# Altium integrated library Microcontroller.IntLib: 5 symbols
Pins are listed as number, name and electrical type; pins without a type are passive.

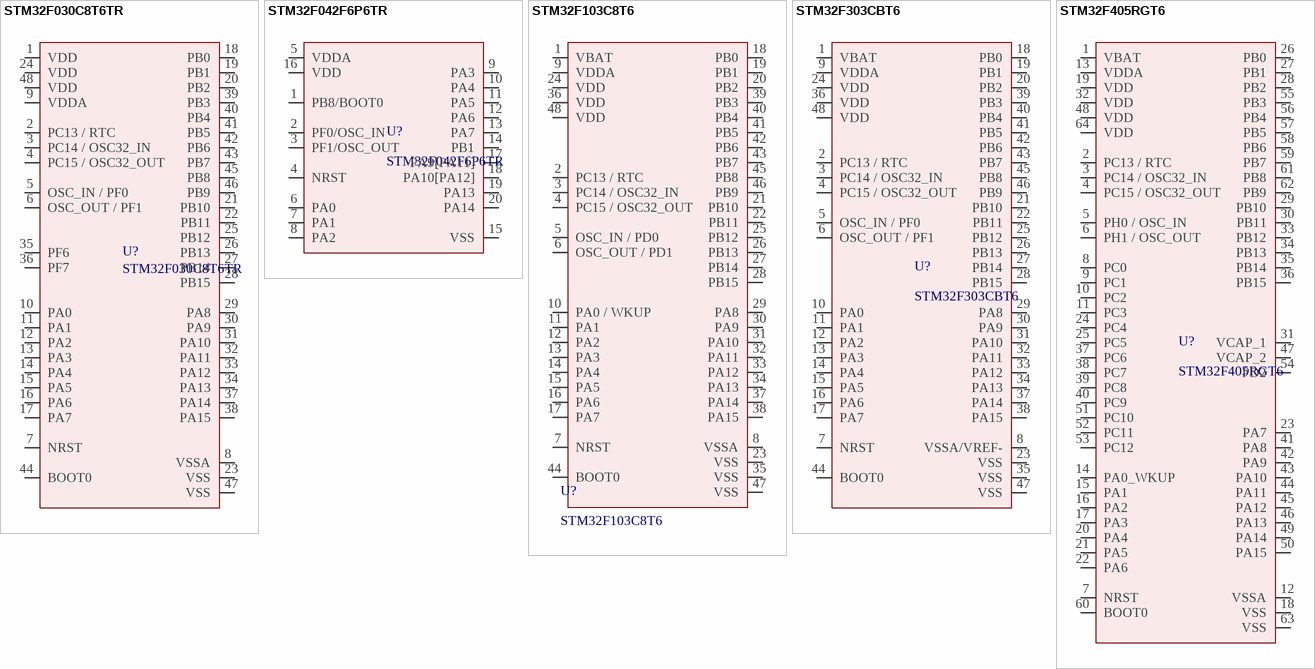
[diagram p0: symbols STM32F030C8T6TR to STM32F405RGT6]

## STM32F030C8T6TR
designator U?
IC MCU 32BIT 64KB FLASH 48LQFP; Manufacturer: STMicroelectronics; RAM Size: 8KB; Max Power Dissipation: 364mW; Interface: I2C,SPI,UART,USART; Number of I/Os: 39; Number of Timers/Counters: 7; Min Supply Voltage: 2.4V; Max Supply Voltage: 3.6V; Frequency: 48MHz; Oscillator Type: Internal; Data Bus Width: 32b; Number of ADC Channels: 12; Number of SPI Channels: 2; Number of PWM Channels: 6; Watchdog Timer: Yes; Peripherals: POR,PWM,WDT,DMA; Core Architecture: ARM; Designed: Ferdi; Supplier 1: Digi-Key; Manufacturer Part Number: STM32F030C8T6TR; RoHS: Yes; Category: Microcontrollers; Stock 1: 31508; Pricing 1: 1=2,74, 10=2,46, 25=2,3208, 100=1,9773, 250=1,8566, 500=1,6245, 1000=1,34602 (USD); Mount: Surface Mount; Case/Package: LQFP; Number of Pins: 48; Weight: 0.006409oz; Min Operating Temperature: -40°C; Max Operating Temperature: 85°C; Packaging: Tape and Reel; Number of Programmable I/O: 39; Max Frequency: 48MHz; Number of I2C Channels: 2; Memory Type: FLASH; Memory Size: 64KB; Package Quantity: 2400; Series: STM32F0; Length: 7.2mm; Width: 7.2mm; Height: 1.45mm; Radiation Hardening: No; Reach SVHC Compliant: No; Lead Free: Lead Free; RoHS Compliant: Yes; ComponentLink1URL: http://www.farnell.com/datasheets/2554494.pdf?src-supplier=Farnell; ComponentLink1Description: http://www.farnell.com/datasheets/2554494.pdf?src-supplier=Farnell; ComponentLink2URL: http://www.farnell.com/datasheets/1792126.pdf?src-supplier=Element14; ComponentLink2Description: http://www.farnell.com/datasheets/1792126.pdf?src-supplier=Element14; Supplier Part Number 1: 497-17331-1-ND
footprint LQFP 48
pins: 1 VDD, 2 PC13 / RTC, 3 PC14 / OSC32_IN, 4 PC15 / OSC32_OUT, 5 OSC_IN / PF0, 6 OSC_OUT / PF1, 7 NRST, 8 VSSA, 9 VDDA, 10 PA0, 11 PA1, 12 PA2, 13 PA3, 14 PA4, 15 PA5, 16 PA6, 17 PA7, 18 PB0, 19 PB1, 20 PB2, 21 PB10, 22 PB11, 23 VSS, 24 VDD, 25 PB12, 26 PB13, 27 PB14, 28 PB15, 29 PA8, 30 PA9, 31 PA10, 32 PA11, 33 PA12, 34 PA13, 35 PF6, 36 PF7, 37 PA14, 38 PA15, 39 PB3, 40 PB4, 41 PB5, 42 PB6, 43 PB7, 44 BOOT0, 45 PB8, 46 PB9, 47 VSS, 48 VDD

## STM32F042F6P6TR
designator U?
MCU 32-Bit STM32F ARM Cortex M0 RISC 32KB Flash 2.5V/3.3V 20-Pin TSSOP Tube; Manufacturer: STMicroelectronics; Nominal Supply Current: 1.7uA; Number of A/D Converters: 1NUMBER; Designed: Ferdi; Number of Channels: 9NUMBER; Supplier 1: Digikey; Manufacturer Part Number: STM32F042F6P6; RoHS: Yes; Category: Microcontrollers; Stock 1: 1060; Pricing 1: 1=3,08, 10=2,769, 74=2,61797, 148=2,26885, 296=2,1525, 518=1,93145, 1036=1,62893, 2516=1,54748, 5032=1,48931 (USD); ComponentLink1URL: https://datasheet.ciiva.com/48494/dm00105814-48494123.pdf?src-supplier=Avnet; ComponentLink1Description: https://datasheet.ciiva.com/48494/dm00105814-48494123.pdf?src-supplier=Avnet; Supplier Part Number 1: 497-17344-ND
footprint TSSOP20
pins: 1 PB8/BOOT0, 2 PF0/OSC_IN, 3 PF1/OSC_OUT, 4 NRST, 5 VDDA, 6 PA0, 7 PA1, 8 PA2, 9 PA3, 10 PA4, 11 PA5, 12 PA6, 13 PA7, 14 PB1, 15 VSS, 16 VDD, 17 PA9[PA11], 18 PA10[PA12], 19 PA13, 20 PA14

## STM32F103C8T6
designator U?
ARM Cortex-M3 STM32 F1 Microcontroller 32-Bit 72MHz 64kB FLASH LQFP48 STM32F103C8T6; Manufacturer: STMicroelectronics; RAM Size: 20KB; Interface: I2C,SPI,USB,CAN,USART; Number of I/Os: 37; Number of Timers/Counters: 3; Max Supply Voltage: 3.6V; Number of ADC Channels: 10; Min Supply Voltage: 2V; Data Bus Width: 32b; Nominal Supply Current: 1.7uA; Number of A/D Converters: 2; Designed: Ferdi; Supplier 1: Digikey; Manufacturer Part Number: STM32F103C8T6; RoHS: Yes; Category: Microcontrollers; Stock 1: 6300; Pricing 1: 1=6,11, 10=5,522, 25=5,2652, 80=4,57163, 250=4,36616, 500=3,9809, 1000=3,46724, 2500=3,33883 (USD); Case/Package: LQFP; Number of Pins: 48; Weight: 0.006349oz; Min Operating Temperature: -40°C; Max Operating Temperature: 85°C; Packaging: Tray; Package Quantity: 1500; Memory Type: FLASH; Max Frequency: 72MHz; Memory Size: 64KB; Core Architecture: ARM; Series: STM32F103C8; Number of Channels: 10; Length: 7mm; Width: 7mm; Height: 1.4mm; Lead Free: Lead Free; RoHS Compliant: Yes; ComponentLink1URL: https://datasheet.ciiva.com/48687/001075658-da-01-en-mcu-64kb-mem-stm32f103c8t6-lqfp-48-stm-48687589.pdf?src-supplier=Conrad; ComponentLink1Description: https://datasheet.ciiva.com/48687/001075658-da-01-en-mcu-64kb-mem-stm32f103c8t6-lqfp-48-stm-48687589.pdf?src-supplier=Conrad; Supplier Part Number 1: 497-6063-ND
footprint LQFP 48
pins: 1 VBAT, 2 PC13 / RTC, 3 PC14 / OSC32_IN, 4 PC15 / OSC32_OUT, 5 OSC_IN / PD0, 6 OSC_OUT / PD1, 7 NRST, 8 VSSA, 9 VDDA, 10 PA0 / WKUP, 11 PA1, 12 PA2, 13 PA3, 14 PA4, 15 PA5, 16 PA6, 17 PA7, 18 PB0, 19 PB1, 20 PB2, 21 PB10, 22 PB11, 23 VSS, 24 VDD, 25 PB12, 26 PB13, 27 PB14, 28 PB15, 29 PA8, 30 PA9, 31 PA10, 32 PA11, 33 PA12, 34 PA13, 35 VSS, 36 VDD, 37 PA14, 38 PA15, 39 PB3, 40 PB4, 41 PB5, 42 PB6, 43 PB7, 44 BOOT0, 45 PB8, 46 PB9, 47 VSS, 48 VDD

## STM32F303CBT6
designator U?
MCU 32-bit STM32F ARM Cortex M4 RISC 128KB Flash 2.5V/3.3V 48-Pin LQFP Tray; Manufacturer: STMicroelectronics; Number of Timers/Counters: 8; RAM Size: 32KB; Interface: I2C,SPI,USB,IrDA,UART,USART,CAN; Number of I/Os: 37; Min Supply Voltage: 2V; Data Bus Width: 32b; Oscillator Type: Internal; Max Frequency: 72MHz; Number of ADC Channels: 1; Peripherals: POR,PWM,WDT,DMA; Nominal Supply Current: 1.5uA; Number of A/D Converters: 4NUMBER; Number of Channels: 15NUMBER; Number of D/A Converters: 2NUMBER; Operating Supply Voltage: 3.6V; Supplier 1: Digi-Key; Manufacturer Part Number: STM32F303CBT6; RoHS: Yes; Category: Microcontrollers; Stock 1: 8261; Pricing 1: 1=6,62, 10=5,977, 25=5,6984, 80=4,948, 250=4,72564, 500=4,30866, 1000=3,75271, 2500=3,61372 (USD); Case/Package: LQFP; Number of Pins: 48; Weight: 0.006409oz; Min Operating Temperature: -40°C; Max Operating Temperature: 85°C; Package Quantity: 1500; Packaging: Tray; Memory Type: FLASH; Memory Size: 128KB; Core Architecture: ARM; Series: STM32F3; Length: 7mm; RoHS Compliant: Yes; Lead Free: Lead Free; ComponentLink1URL: https://datasheet.ciiva.com/22692/1831499-22692000.pdf?src-supplier=Element14; ComponentLink1Description: https://datasheet.ciiva.com/22692/1831499-22692000.pdf?src-supplier=Element14; ComponentLink2URL: https://datasheet.ciiva.com/24182/dm00058181-24182821.pdf?src-supplier=Future+Electronics; ComponentLink2Description: https://datasheet.ciiva.com/24182/dm00058181-24182821.pdf?src-supplier=Future+Electronics; Supplier Part Number 1: 497-17421-ND; Digikey: Ferdi
footprint LQFP 48
pins: 1 VBAT, 2 PC13 / RTC, 3 PC14 / OSC32_IN, 4 PC15 / OSC32_OUT, 5 OSC_IN / PF0, 6 OSC_OUT / PF1, 7 NRST, 8 VSSA/VREF-, 9 VDDA, 10 PA0, 11 PA1, 12 PA2, 13 PA3, 14 PA4, 15 PA5, 16 PA6, 17 PA7, 18 PB0, 19 PB1, 20 PB2, 21 PB10, 22 PB11, 23 VSS, 24 VDD, 25 PB12, 26 PB13, 27 PB14, 28 PB15, 29 PA8, 30 PA9, 31 PA10, 32 PA11, 33 PA12, 34 PA13, 35 VSS, 36 VDD, 37 PA14, 38 PA15, 39 PB3, 40 PB4, 41 PB5, 42 PB6, 43 PB7, 44 BOOT0, 45 PB8, 46 PB9, 47 VSS, 48 VDD

## STM32F405RGT6
designator U?
MCU 32-bit STM32F ARM Cortex M4F RISC 1024KB Flash 2.5V/3.3V 64-Pin LQFP Tray; Manufacturer: STMicroelectronics; Interface: I2C,SPI,USB,CAN,IrDA,UART,USART,LIN,I2S; Data Bus Width: 32b; RAM Size: 196KB; Number of I/Os: 51; Number of Timers/Counters: 14; Number of PWM Channels: 2; Frequency: 168MHz; Number of ADC Channels: 16; Max Supply Voltage: 3.6V; Min Supply Voltage: 1.8V; Oscillator Type: Internal; Number of SPI Channels: 3; Peripherals: Brown-out Detect/Reset,POR,PWM,WDT,DMA,LCD,I2C; Watchdog Timer: Yes; Nominal Supply Current: 1.7uA; Designed: Ferdi; Supplier 1: Digikey; Manufacturer Part Number: STM32F405RGT6; RoHS: Yes; Category: Microcontrollers; Stock 1: 7512; Pricing 1: 1=12,03, 10=11,058, 25=10,6, 160=9,33944, 320=8,88109, 480=8,3081, 960=7,62054 (USD); Case/Package: LQFP; Number of Pins: 64; Min Operating Temperature: -40°C; Max Operating Temperature: 85°C; Core Architecture: ARM; Packaging: Tray; Series: STM32 F4; Package Quantity: 960; Memory Size: 1024KB; Max Frequency: 168MHz; Number of I2C Channels: 3; Memory Type: FLASH; Number of UART Channels: 2; Number of Programmable I/O: 51; Number of USB Channels: 2; Number of A/D Converters: 3; Number of Channels: 16; Number of D/A Converters: 2; Length: 10mm; Width: 10mm; Height: 1.45mm; Radiation Hardening: No; Reach SVHC Compliant: No; RoHS Compliant: Yes; Lead Free: Lead Free; ComponentLink1URL: https://datasheet.ciiva.com/8055/1717982-8055024.pdf?src-supplier=Element14; ComponentLink1Description: https://datasheet.ciiva.com/8055/1717982-8055024.pdf?src-supplier=Element14; ComponentLink2URL: https://datasheet.ciiva.com/4837/dm00037051-492832-4837997.pdf?src-supplier=Mouser; ComponentLink2Description: https://datasheet.ciiva.com/4837/dm00037051-492832-4837997.pdf?src-supplier=Mouser; Supplier Part Number 1: 497-11767-ND
footprint LQFP 64
pins: 1 VBAT, 2 PC13 / RTC, 3 PC14 / OSC32_IN, 4 PC15 / OSC32_OUT, 5 PH0 / OSC_IN, 6 PH1 / OSC_OUT, 7 NRST, 8 PC0, 9 PC1, 10 PC2, 11 PC3, 12 VSSA, 13 VDDA, 14 PA0_WKUP, 15 PA1, 16 PA2, 17 PA3, 18 VSS, 19 VDD, 20 PA4, 21 PA5, 22 PA6, 23 PA7, 24 PC4, 25 PC5, 26 PB0, 27 PB1, 28 PB2, 29 PB10, 30 PB11, 31 VCAP_1, 32 VDD, 33 PB12, 34 PB13, 35 PB14, 36 PB15, 37 PC6, 38 PC7, 39 PC8, 40 PC9, 41 PA8, 42 PA9, 43 PA10, 44 PA11, 45 PA12, 46 PA13, 47 VCAP_2, 48 VDD, 49 PA14, 50 PA15, 51 PC10, 52 PC11, 53 PC12, 54 PD2, 55 PB3, 56 PB4, 57 PB5, 58 PB6, 59 PB7, 60 BOOT0, 61 PB8, 62 PB9, 63 VSS, 64 VDD